# EAGLE library part 62000821121 (library Wuerth_Elektronik_eiCan_Pin_&_Socked_Headers_v1.3)
WR-PHD 2.00mm Dual Pin Header, 8 Pins
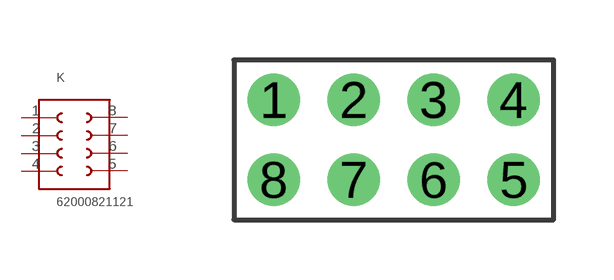
[diagram p271: symbol with the pads of 62000821121; footprint 62000821121]

Designator prefix K

## 62000821121  [62000821121]
1  1  pas
2  2  pas
3  3  pas
4  4  pas
5  5  pas
6  6  pas
7  7  pas
8  8  pas

## Footprint 62000821121 (pad centres in mm)
WR-PHD 2.00mm Dual Pin Header, 8 Pins
drill 0.8 round: 1 -3,1; 2 -1,1; 3 1,1; 4 3,1; 5 3,-1; 6 1,-1; 7 -1,-1; 8 -3,-1